# Altium schematic symbol library Desk lamp原理图库.SchLib: 20 symbols
Pins are listed as number, name and electrical type; pins without a type are passive.

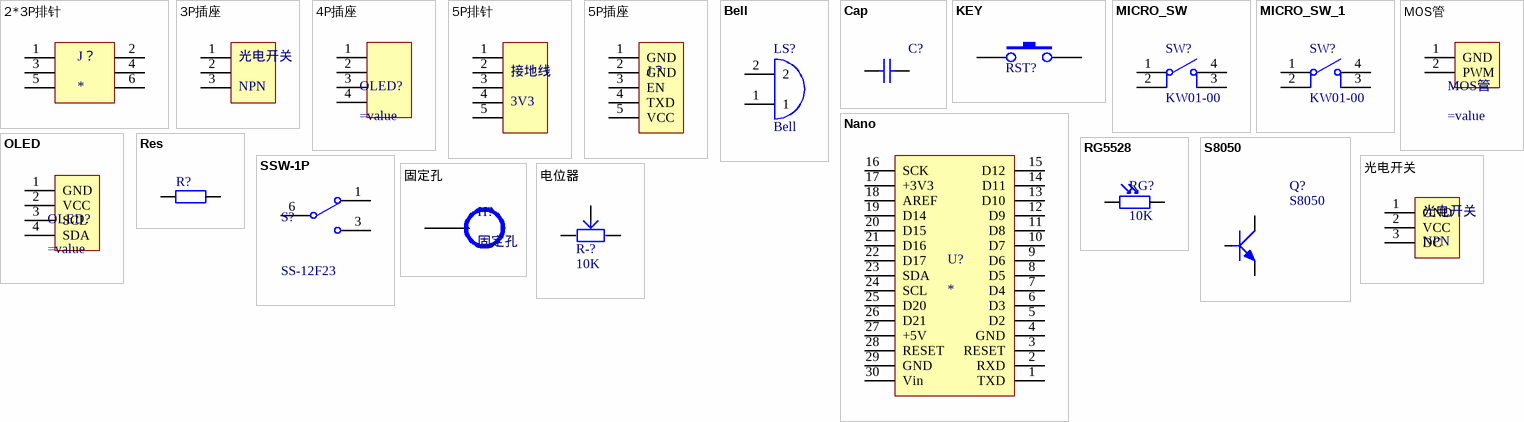
[diagram p0: symbols 2*3P排针 to 电位器]

## 2*3P排针
designator J？
双排针
footprint HDR2.54-LI-2x3P (双排排针，3x2脚)
pins: 1 GND, 2 GND, 3 VCC, 4 GND, 5 DC, 6 GND

## 3P插座
designator 光电开关, comment NPN
2.54插座
footprint HDR2.54-LI-3P (排针，3脚)
pins: 1 GND, 2 VCC, 3 DC

## 4P插座
designator OLED?
2.54插座
footprint XH2.54-LI-4P (接插件，4P)
pins: 1 GND, 2 VCC, 3 SCL, 4 SDA

## 5P排针
designator 接地线, comment 3V3
2.54排针
footprint HDR2.54-LI-5P (排针，5脚)
pins: 1 GND, 2 GND, 3 GND, 4 GND, 5 GND

## 5P插座
designator J？
2.54插座
footprint XH2.54-LI-5P (接插件，5P)
pins: 1 GND, 2 GND, 3 EN, 4 TXD, 5 VCC

## Bell
designator LS?
Electrical Bell; Published: 24-Mar-1999; LatestRevisionDate: 17-Jul-2002; LatestRevisionNote: Re-released for DXP Platform.; PackageReference: PIN2; Publisher: Altium Limited
footprint 蜂鸣器侧装
footprint BEEP 7.6x12x9.5 (6.5*12*9.5mm(脚距,直径,高度))
pins: 1, 2

## Cap
designator C?
无极性电容
footprint C 0805_L (无极性贴片电容)
pins: 1, 2

## KEY
designator RST?  (value not drawn)
按钮
footprint _key_
pins: 1, 2 3

## MICRO_SW
designator SW?, comment KW01-00
微动开关; BOM名称: 微动开关
footprint TSW DIP-6*6*7 (6*6*7mm)
pins: 1, 2, 3, 4

## MICRO_SW_1
designator SW?, comment KW01-00
微动开关; BOM名称: 微动开关
footprint TSW DIP-6*6*7 (6*6*7mm)
pins: 1, 2, 3, 4

## MOS管
designator MOS管
2.54插座
footprint XH2.54-LI-2P (接插件，2P)
pins: 1 GND, 2 PWM

## Nano
designator U?
Arduino
footprint Nano
pins: 1 TXD, 2 RXD, 3 RESET, 4 GND, 5 D2, 6 D3, 7 D4, 8 D5, 9 D6, 10 D7, 11 D8, 12 D9, 13 D10, 14 D11, 15 D12, 16 SCK, 17 +3V3, 18 AREF, 19 D14, 20 D15, 21 D16, 22 D17, 23 SDA, 24 SCL, 25 D20, 26 D21, 27 +5V, 28 RESET, 29 GND, 30 Vin

## OLED
designator OLED?
显示屏
footprint XH2.54-LI-4P (接插件，4P)
pins: 1 GND, 2 VCC, 3 SCL, 4 SDA

## Res
designator R?, comment 10K  (value not drawn)
电阻; value: 10K
footprint R 0603 (贴片带丝印)
pins: 1, 2

## RG5528
designator RG?, comment 10K
光敏电阻; BOM名称: 光敏电阻
footprint RG5528 (光敏电阻 脚距：3mm)
pins: 1, 2

## S8050
designator Q?
footprint SOT23-3L (3x1.3x1mm(长宽高))
pins: 1, 2, 3

## SSW-1P
designator S?, comment SS-12F23
1路波动开关; BOM名称: 波动开关
footprint KFC DIP-8X8 (自锁开关，规格：8*8mm)
pins: 1, 3, 6

## 光电开关
designator 光电开关, comment NPN
模块
footprint XH2.54-LI-3P (接插件，3P)
pins: 1 GND, 2 VCC, 3 DC

## 固定孔
designator H?
footprint M3x6+6_L (M3铜柱，长：6mm，螺纹长：6mm)
pins: 1

## 电位器
designator R-?, comment 10K
footprint 3303W (3.5*3.1*1.5mm)
footprint 3319P
pins: 1, 2, 3